# EAGLE library part 6-1393801-2 (library Relays)
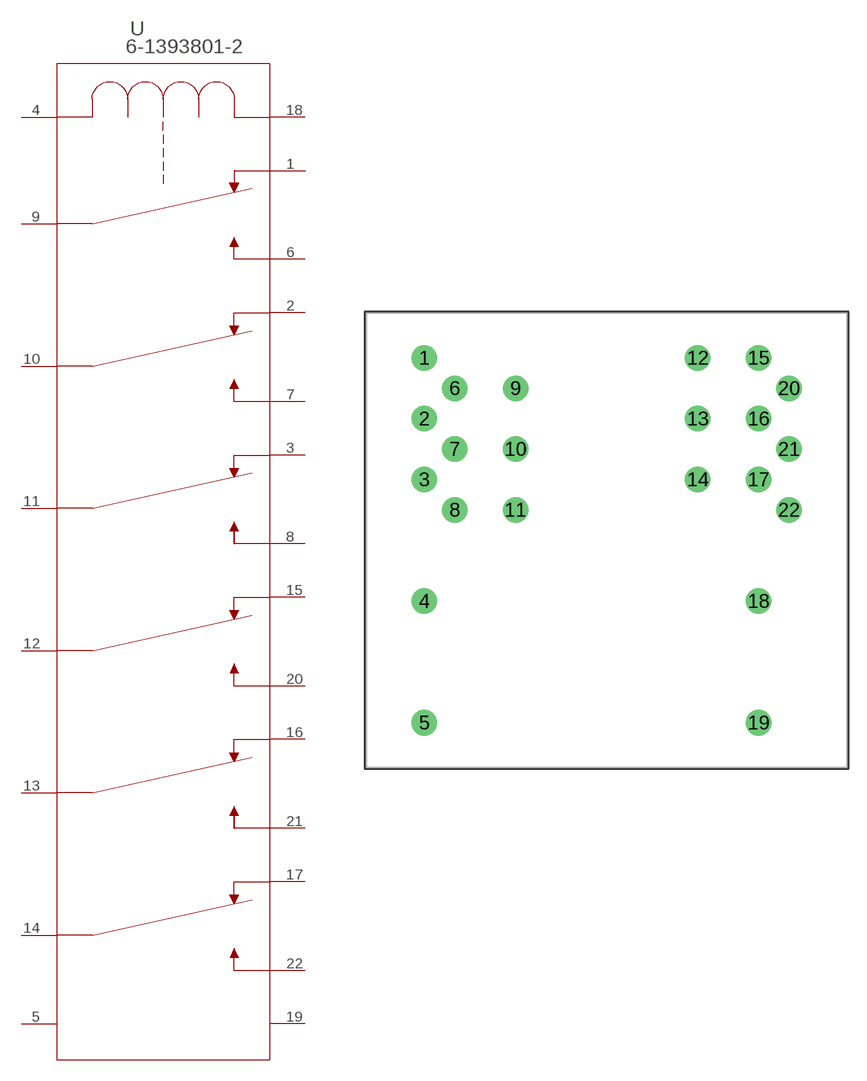
[diagram p65: symbol with the pads of RELAY_6-1393801-2; footprint RELAY_6-1393801-2]

Designator prefix U

## 6-1393801-2 (BUILT_BY: EMA_UL_Team; CATEGORY: Signal Relays; COPYRIGHT: Copyright (C) 2016 Accelerated Designs. All rights reserved; DESCRIPTION: V23030C1017A106; MANUFACTURER_PART_NUMBER: 6-1393801-2; PART_STATUS: active; SERIES: Axicom Card Relay SN; VENDOR: TE Connectivity)  [RELAY_6-1393801-2]
1  5  pas
2  8  pas
3  11  pas
4  1  pas
5  21  pas
6  4  pas
7  7  pas
8  10  pas
9  3  pas
10  6  pas
11  9  pas
12  12  pas
13  15  pas
14  18  pas
15  14  pas
16  17  pas
17  20  pas
18  2  pas
19  22  pas
20  13  pas
21  16  pas
22  19  pas

## Footprint RELAY_6-1393801-2 (pad centres in mm)
drill 1.422 pad 1.93: 1 -30.48,30.48; 2 -30.48,25.4; 3 -30.48,20.32; 4 -30.48,10.16; 5 -30.48,0; 6 -27.94,27.94; 7 -27.94,22.86; 8 -27.94,17.78; 9 -22.86,27.94; 10 -22.86,22.86; 11 -22.86,17.78; 12 -7.62,30.48; 13 -7.62,25.4; 14 -7.62,20.32; 15 -2.54,30.48; 16 -2.54,25.4; 17 -2.54,20.32; 18 -2.54,10.16; 19 -2.54,0; 20 0,27.94; 21 0,22.86; 22 0,17.78